# Altium schematic symbol library 691 219 610 0xx.SchLib: 2 symbols
Pins are listed as number, name and electrical type; pins without a type are passive.

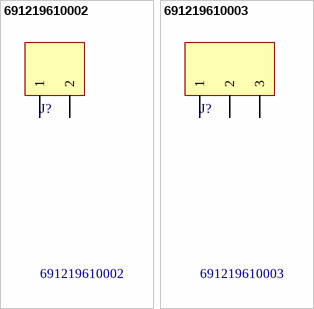
[diagram p0: symbols 691219610002 to 691219610003]

## 691219610002
designator J?
WR-TBL Horizontal Entry Modular with Rising Cage Clamp,Serie 2196 - 10.16 mm; Manufacturer: Würth Elektronik eiSos GmbH; ComponentLink1 Description: Manufacturer; ComponentLink2 Description: Datasheet; NoPins: 2; Created Date: 2 December 2013; partNo: 691219610002; ComponentLink1URL: http://www.we-online.com; ComponentLink2URL: http://katalog.we-online.de/em/datasheet/6912196100xx.pdf; Created by: Karrer Zheng
footprint 691219610002
pins: 1, 2

## 691219610003
designator J?
WR-TBL Horizontal Entry Modular with Rising Cage Clamp,Serie 2196 - 10.16 mm; Manufacturer: Würth Elektronik eiSos GmbH; ComponentLink1 Description: Manufacturer; ComponentLink2 Description: Datasheet; NoPins: 3; Created Date: 2 December 2013; partNo: 691219610003; ComponentLink1URL: http://www.we-online.com; ComponentLink2URL: http://katalog.we-online.de/em/datasheet/6912196100xx.pdf; Created by: Karrer Zheng
footprint 691219610003
pins: 1, 2, 3